# Altium schematic symbol library Driver_FET.SchLib: 194 symbols (part 2 of 2)
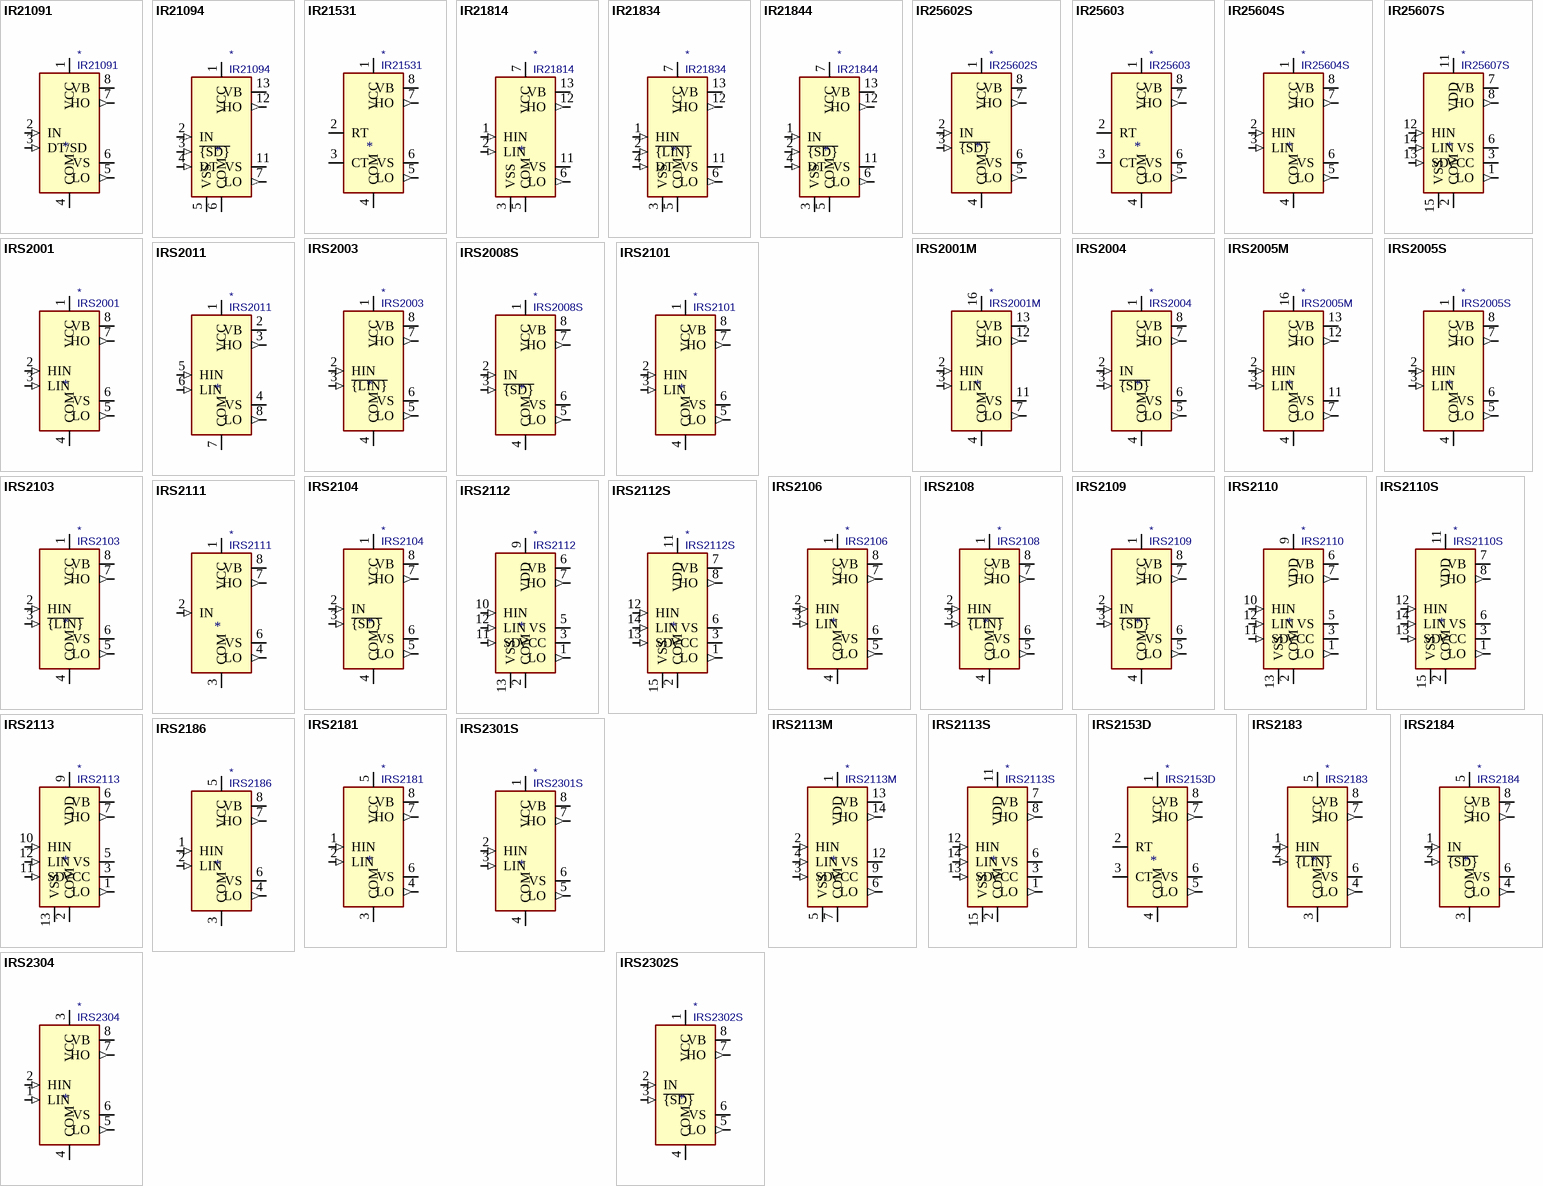
[diagram p5: symbols IR21091 to IRS2304]

## IRS2103
designator *  value IRS2103
ki_keywords: Gate Driver; ki_description: Half-Bridge Driver, 600V, 290/600mA, PDIP-8/SOIC-8; ki_fp_filters: SOIC*3.9x4.9mm*P1.27mm* DIP*W7.62mm*; Supplier: https://www.infineon.com/dgdl/irs2103.pdf?fileId=5546d462533600a4015356762b71279f
pins: 1 VCC (power), 2 HIN (in), 3 ~{{LIN}} (in), 4 COM (power), 5 LO (out), 6 VS, 7 HO (out), 8 VB

## IRS2104
designator *  value IRS2104
ki_keywords: Gate Driver; ki_description: Half-Bridge Driver, 600V, 290/600mA, PDIP-8/SOIC-8; ki_fp_filters: SOIC*3.9x4.9mm*P1.27mm* DIP*W7.62mm*; Supplier: https://www.infineon.com/dgdl/irs2104.pdf?fileId=5546d462533600a40153567633f727a1
pins: 1 VCC (power), 2 IN (in), 3 ~{{SD}} (in), 4 COM (power), 5 LO (out), 6 VS, 7 HO (out), 8 VB

## IRS2106
designator *  value IRS2106
ki_keywords: Gate Driver; ki_description: High and Low Side Driver, 600V, 290/600mA, PDIP-8/SOIC-8; ki_fp_filters: SOIC*3.9x4.9mm*P1.27mm* DIP*W7.62mm*; Supplier: https://www.infineon.com/dgdl/irs2106.pdf?fileId=5546d462533600a4015356763aa527a3
pins: 1 VCC (power), 2 HIN (in), 3 LIN (in), 4 COM (power), 5 LO (out), 6 VS, 7 HO (out), 8 VB

## IRS2108
designator *  value IRS2108
ki_keywords: Gate Driver; ki_description: Half-Bridge Driver, 600V, 290/600mA, PDIP-8/SOIC-8; ki_fp_filters: SOIC*3.9x4.9mm*P1.27mm* DIP*W7.62mm*; Supplier: https://www.infineon.com/dgdl/irs2108.pdf?fileId=5546d462533600a40153567649d627a8
pins: 1 VCC (power), 2 HIN (in), 3 ~{{LIN}} (in), 4 COM (power), 5 LO (out), 6 VS, 7 HO (out), 8 VB

## IRS2109
designator *  value IRS2109
ki_keywords: Gate Driver; ki_description: Half-Bridge Driver, 600V, 290/600mA, PDIP-8/SOIC-8; ki_fp_filters: SOIC*3.9x4.9mm*P1.27mm* DIP*W7.62mm*; Supplier: https://www.infineon.com/dgdl/irs2109.pdf?fileId=5546d462533600a401535676508f27ab
pins: 1 VCC (power), 2 IN (in), 3 ~{{SD}} (in), 4 COM (power), 5 LO (out), 6 VS, 7 HO (out), 8 VB

## IRS2110
designator *  value IRS2110
ki_keywords: Gate Driver; ki_description: High and Low Side Driver, 500V, 2.0/2.0A, PDIP-14; ki_fp_filters: DIP*W7.62mm*; Footprint: Package_DIP:DIP-14_W7.62mm; Supplier: https://www.infineon.com/dgdl/irs2110.pdf?fileId=5546d462533600a40153567660ff27b0
footprint DIP-14_W7.62mm
pins: 1 LO (out), 2 COM (power), 3 VCC (power), 4 NC (in) hidden, 5 VS, 6 VB, 7 HO (out), 8 NC (in) hidden, 9 VDD (power), 10 HIN (in), 11 SD (in), 12 LIN (in), 13 VSS (power), 14 NC (in) hidden

## IRS2110S
designator *  value IRS2110S
ki_keywords: Gate Driver; ki_description: High and Low Side Driver, 500V, 2.0/2.0A, SOIC-16W; ki_fp_filters: SOIC*7.5x10.3mm*P1.27mm*; Footprint: Package_SO:SOIC-16W_7.5x10.3mm_P1.27mm; Supplier: https://www.infineon.com/dgdl/irs2110.pdf?fileId=5546d462533600a40153567660ff27b0
footprint SOIC-16W_7.5x10.3mm_P1.27mm
pins: 1 LO (out), 2 COM (power), 3 VCC (power), 4 NC (in) hidden, 5 NC (in) hidden, 6 VS, 7 VB, 8 HO (out), 9 NC (in) hidden, 10 NC (in) hidden, 11 VDD (power), 12 HIN (in), 13 SD (in), 14 LIN (in), 15 VSS (power), 16 NC (in) hidden

## IRS2111
designator *  value IRS2111
ki_keywords: Gate Driver; ki_description: Half-Bridge Driver, 600V, 290/600mA, PDIP-8/SOIC-8; ki_fp_filters: SOIC*3.9x4.9mm*P1.27mm* DIP*W7.62mm*; Supplier: https://www.infineon.com/dgdl/irs2111pbf.pdf?fileId=5546d462533600a401535676679b27b3
pins: 1 VCC (power), 2 IN (in), 3 COM (power), 4 LO (out), 5 NC (in) hidden, 6 VS, 7 HO (out), 8 VB

## IRS2112
designator *  value IRS2112
ki_keywords: Gate Driver; ki_description: High and Low Side Driver, 600V, 290/600mA, PDIP-14; ki_fp_filters: DIP*W7.62mm*; Footprint: Package_DIP:DIP-14_W7.62mm; Supplier: https://www.infineon.com/dgdl/irs2112pbf.pdf?fileId=5546d462533600a401535676702827b5
footprint DIP-14_W7.62mm
pins: 1 LO (out), 2 COM (power), 3 VCC (power), 4 NC (in) hidden, 5 VS, 6 VB, 7 HO (out), 8 NC (in) hidden, 9 VDD (power), 10 HIN (in), 11 SD (in), 12 LIN (in), 13 VSS (power), 14 NC (in) hidden

## IRS2112S
designator *  value IRS2112S
ki_keywords: Gate Driver; ki_description: High and Low Side Driver, 500V, 290/600mA, SOIC-16W; ki_fp_filters: SOIC*7.5x10.3mm*P1.27mm*; Footprint: Package_SO:SOIC-16W_7.5x10.3mm_P1.27mm; Supplier: https://www.infineon.com/dgdl/irs2112pbf.pdf?fileId=5546d462533600a401535676702827b5
footprint SOIC-16W_7.5x10.3mm_P1.27mm
pins: 1 LO (out), 2 COM (power), 3 VCC (power), 4 NC (in) hidden, 5 NC (in) hidden, 6 VS, 7 VB, 8 HO (out), 9 NC (in) hidden, 10 NC (in) hidden, 11 VDD (power), 12 HIN (in), 13 SD (in), 14 LIN (in), 15 VSS (power), 16 NC (in) hidden

## IRS2113
designator *  value IRS2113
ki_keywords: Gate Driver; ki_description: High and Low Side Driver, 600V, 2.0/2.0A, PDIP-14; ki_fp_filters: DIP*W7.62mm*; Footprint: Package_DIP:DIP-14_W7.62mm; Supplier: https://www.infineon.com/dgdl/irs2110.pdf?fileId=5546d462533600a40153567660ff27b0
footprint DIP-14_W7.62mm
pins: 1 LO (out), 2 COM (power), 3 VCC (power), 4 NC (in) hidden, 5 VS, 6 VB, 7 HO (out), 8 NC (in) hidden, 9 VDD (power), 10 HIN (in), 11 SD (in), 12 LIN (in), 13 VSS (power), 14 NC (in) hidden

## IRS2113M
designator *  value IRS2113M
ki_keywords: Gate Driver; ki_description: High- and Low-Side Driver, 600V, 2.5/2.5A, MLPQ-14; ki_fp_filters: Infineon*MLPQ*EP*4x4mm*P0.5mm*; Footprint: Package_DFN_QFN:Infineon_MLPQ-16-14-1EP_4x4mm_P0.5mm; Supplier: https://www.infineon.com/dgdl/irs2113mpbf.pdf?fileId=5546d462533600a40153567676a227b7
footprint Infineon_MLPQ-16-14-1EP_4x4mm_P0.5mm
pins: 1 VDD (power), 2 HIN (in), 3 SD (in), 4 LIN (in), 5 VSS (power), 6 LO (out), 7 COM (power), 8 NC (in) hidden, 9 VCC (power), 11 NC (in) hidden, 12 VS, 13 VB, 14 HO (out), 16 NC (in) hidden, 17 COM hidden

## IRS2113S
designator *  value IRS2113S
ki_keywords: Gate Driver; ki_description: High and Low Side Driver, 500V, 2.0/2.0A, SOIC-16W; ki_fp_filters: SOIC*7.5x10.3mm*P1.27mm*; Footprint: Package_SO:SOIC-16W_7.5x10.3mm_P1.27mm; Supplier: https://www.infineon.com/dgdl/irs2110.pdf?fileId=5546d462533600a40153567660ff27b0
footprint SOIC-16W_7.5x10.3mm_P1.27mm
pins: 1 LO (out), 2 COM (power), 3 VCC (power), 4 NC (in) hidden, 5 NC (in) hidden, 6 VS, 7 VB, 8 HO (out), 9 NC (in) hidden, 10 NC (in) hidden, 11 VDD (power), 12 HIN (in), 13 SD (in), 14 LIN (in), 15 VSS (power), 16 NC (in) hidden

## IRS2153D
designator *  value IRS2153D
ki_keywords: Oscillating Gate Driver; ki_description: Self-Oscillating Half-Bridge Driver IC, 600V, 180/260mA, PDIP-8/SOIC-8; ki_fp_filters: SOIC*3.9x4.9mm*P1.27mm* DIP*W7.62mm*; Supplier: https://www.infineon.com/dgdl/irs2153d.pdf?fileId=5546d462533600a401535676951e27c3
pins: 1 VCC (power), 2 RT, 3 CT, 4 COM (power), 5 LO (out), 6 VS, 7 HO (out), 8 VB

## IRS2181
designator *  value IRS2181
ki_keywords: Gate Driver; ki_description: High and Low Side Driver, 600V, 1.4/1.8A, PDIP-8/SOIC-8; ki_fp_filters: SOIC*3.9x4.9mm*P1.27mm* DIP*W7.62mm*; Supplier: https://www.infineon.com/dgdl/irs2181.pdf?fileId=5546d462533600a401535676c12b27d3
pins: 1 HIN (in), 2 LIN (in), 3 COM (power), 4 LO (out), 5 VCC (power), 6 VS, 7 HO (out), 8 VB

## IRS2183
designator *  value IRS2183
ki_keywords: Gate Driver; ki_description: Half-Bridge Driver, 600V, 1.4/1.8A, PDIP-8/SOIC-8; ki_fp_filters: SOIC*3.9x4.9mm*P1.27mm* DIP*W7.62mm*; Supplier: https://www.infineon.com/dgdl/irs2183.pdf?fileId=5546d462533600a401535676d20c27d8
pins: 1 HIN (in), 2 ~{{LIN}} (in), 3 COM (power), 4 LO (out), 5 VCC (power), 6 VS, 7 HO (out), 8 VB

## IRS2184
designator *  value IRS2184
ki_keywords: Gate Driver; ki_description: Half-Bridge Driver, 600V, 1.4/1.8A, PDIP-8/SOIC-8; ki_fp_filters: SOIC*3.9x4.9mm*P1.27mm* DIP*W7.62mm*; Supplier: https://www.infineon.com/dgdl/irs2184.pdf?fileId=5546d462533600a401535676d8da27db
pins: 1 IN (in), 2 ~{{SD}} (in), 3 COM (power), 4 LO (out), 5 VCC (power), 6 VS, 7 HO (out), 8 VB

## IRS2186
designator *  value IRS2186
ki_keywords: gate driver; ki_description: High and Low Side Driver, 600V, 4A, PDIP-8/SOIC-8; ki_fp_filters: SOIC*3.9x4.9mm*P1.27mm* DIP*W7.62mm*; Supplier: https://www.infineon.com/dgdl/irs2186pbf.pdf?fileId=5546d462533600a40153567716c427ed
pins: 1 HIN (in), 2 LIN (in), 3 COM (power), 4 LO (out), 5 VCC (power), 6 VS, 7 HO (out), 8 VB

## IRS2301S
designator *  value IRS2301S
ki_keywords: Gate Driver; ki_description: High and Low Side Driver, 600V, 200/350mA, SOIC-8; ki_fp_filters: SOIC*3.9x4.9mm*P1.27mm*; Footprint: Package_SO:SOIC-8_3.9x4.9mm_P1.27mm; Supplier: https://www.infineon.com/dgdl/irs2301pbf.pdf?fileId=5546d462533600a40153567a7ec527fe
footprint SOIC-8_3.9x4.9mm_P1.27mm
pins: 1 VCC (power), 2 HIN (in), 3 LIN (in), 4 COM (power), 5 LO (out), 6 VS, 7 HO (out), 8 VB

## IRS2302S
designator *  value IRS2302S
ki_keywords: Gate Driver; ki_description: Half-Bridge Driver, 600V, 200/350mA, SOIC-8; ki_fp_filters: SOIC*3.9x4.9mm*P1.27mm*; Footprint: Package_SO:SOIC-8_3.9x4.9mm_P1.27mm; Supplier: https://www.infineon.com/dgdl/Infineon-IRS2302-DS-v02_01-EN.pdf?fileId=5546d462533600a40153567a87382800
footprint SOIC-8_3.9x4.9mm_P1.27mm
pins: 1 VCC (power), 2 IN (in), 3 ~{{SD}} (in), 4 COM (power), 5 LO (out), 6 VS, 7 HO (out), 8 VB

## IRS2304
designator *  value IRS2304
ki_keywords: Gate Driver; ki_description: Half-Bridge Driver, 600V, 290/600mA, PDIP-8/SOIC-8; ki_fp_filters: SOIC*3.9x4.9mm*P1.27mm* DIP*W7.62mm*; Supplier: https://www.infineon.com/dgdl/irs2304spbf.pdf?fileId=5546d462533600a40153567a8fe72802
pins: 1 LIN (in), 2 HIN (in), 3 VCC (power), 4 COM (power), 5 LO (out), 6 VS, 7 HO (out), 8 VB

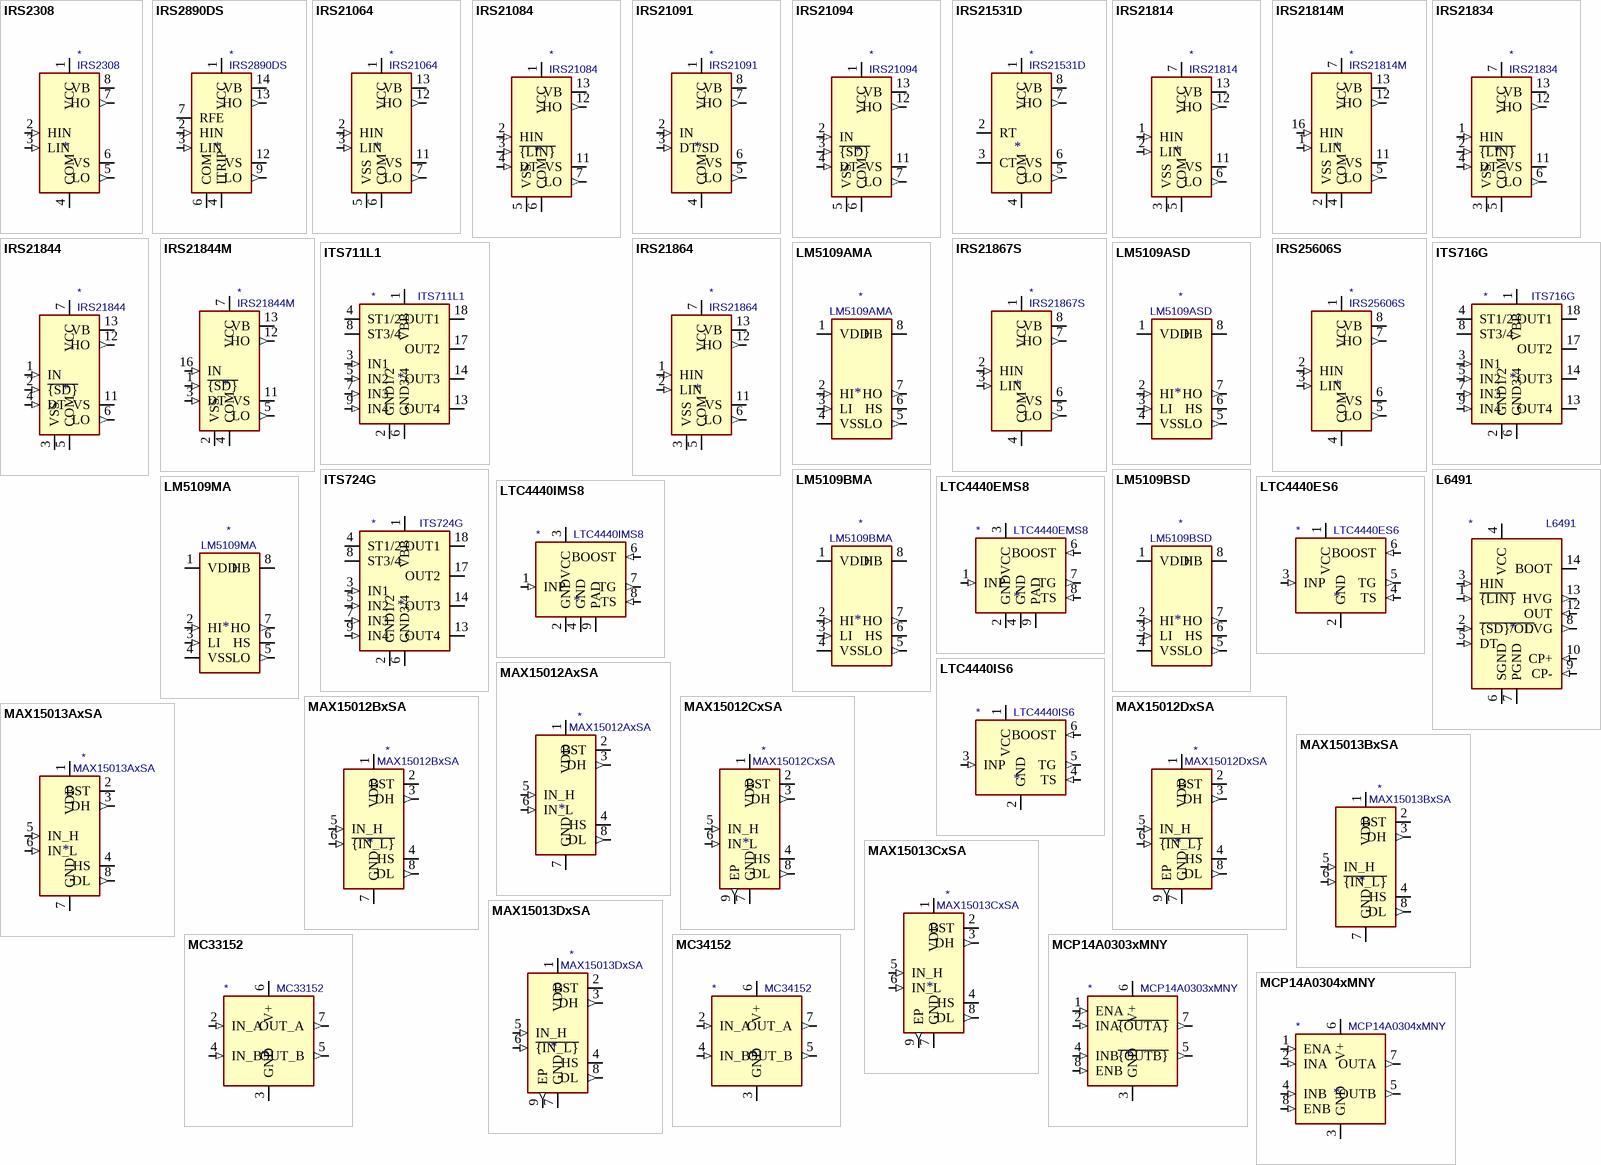
[diagram p3: symbols IRS2308 to MCP14A0304xMNY]

## IRS2308
designator *  value IRS2308
ki_keywords: Gate Driver; ki_description: Half-Bridge Driver, 600V, 290/600mA, PDIP-8/SOIC-8; ki_fp_filters: SOIC*3.9x4.9mm*P1.27mm* DIP*W7.62mm*; Supplier: https://www.infineon.com/dgdl/irs2308.pdf?fileId=5546d462533600a40153567a98ac2804
pins: 1 VCC (power), 2 HIN (in), 3 LIN (in), 4 COM (power), 5 LO (out), 6 VS, 7 HO (out), 8 VB

## IRS2890DS
designator *  value IRS2890DS
ki_keywords: Gate Driver; ki_description: Half-Bridge Driver with Overcurrent Protection, 600V, 220/480mA, SOIC-14; ki_fp_filters: SOIC*3.9x8.7mm*P1.27mm*; Footprint: Package_SO:SOIC-14_3.9x8.7mm_P1.27mm; Supplier: https://www.infineon.com/dgdl/Infineon-IRS2890DS-DS-v01_00-EN.pdf?fileId=5546d4625a888733015aad6fbc8a4bf4
footprint SOIC-14_3.9x8.7mm_P1.27mm
pins: 1 VCC (power), 2 HIN (in), 3 LIN (in), 4 ITRIP, 5 NC (in) hidden, 6 COM (power), 7 RFE (oc), 8 NC (in) hidden, 9 LO (out), 10 NC (in) hidden, 11 NC (in) hidden, 12 VS, 13 HO (out), 14 VB

## IRS21064
designator *  value IRS21064
ki_keywords: Gate Driver; ki_description: High and Low Side Driver, 600V, 290/600mA, PDIP-14/SOIC-14; ki_fp_filters: SOIC*3.9x8.7mm*P1.27mm* DIP*W7.62mm*; Supplier: https://www.infineon.com/dgdl/irs2106.pdf?fileId=5546d462533600a4015356763aa527a3
pins: 1 VCC (power), 2 HIN (in), 3 LIN (in), 4 NC (in) hidden, 5 VSS (power), 6 COM (power), 7 LO (out), 8 NC (in) hidden, 9 NC (in) hidden, 10 NC (in) hidden, 11 VS, 12 HO (out), 13 VB, 14 NC (in) hidden

## IRS21084
designator *  value IRS21084
ki_keywords: Gate Driver; ki_description: Half-Bridge Driver, 600V, 290/600mA, PDIP-14/SOIC-14; ki_fp_filters: SOIC*3.9x8.7mm*P1.27mm* DIP*W7.62mm*; Supplier: https://www.infineon.com/dgdl/irs2108.pdf?fileId=5546d462533600a40153567649d627a8
pins: 1 VCC (power), 2 HIN (in), 3 ~{{LIN}} (in), 4 DT (in), 5 VSS (power), 6 COM (power), 7 LO (out), 8 NC (in) hidden, 9 NC (in) hidden, 10 NC (in) hidden, 11 VS, 12 HO (out), 13 VB, 14 NC (in) hidden

## IRS21091
designator *  value IRS21091
ki_keywords: Gate Driver; ki_description: Half-Bridge Driver, 600V, 290/600mA, PDIP-8/SOIC-8; ki_fp_filters: SOIC*3.9x4.9mm*P1.27mm* DIP*W7.62mm*; Supplier: https://www.infineon.com/dgdl/irs21091.pdf?fileId=5546d462533600a401535676573d27ae
pins: 1 VCC (power), 2 IN (in), 3 DT/SD (in), 4 COM (power), 5 LO (out), 6 VS, 7 HO (out), 8 VB

## IRS21094
designator *  value IRS21094
ki_keywords: Gate Driver; ki_description: Half-Bridge Driver, 600V, 290/600mA, PDIP-8/SOIC-8; ki_fp_filters: SOIC*3.9x8.7mm*P1.27mm* DIP*W7.62mm*; Supplier: https://www.infineon.com/dgdl/irs2109.pdf?fileId=5546d462533600a401535676508f27ab
pins: 1 VCC (power), 2 IN (in), 3 ~{{SD}} (in), 4 DT (in), 5 VSS (power), 6 COM (power), 7 LO (out), 8 NC (in) hidden, 9 NC (in) hidden, 10 NC (in) hidden, 11 VS, 12 HO (out), 13 VB, 14 NC (in) hidden

## IRS21531D
designator *  value IRS21531D
ki_keywords: Oscillating Gate Driver; ki_description: Self-Oscillating Half-Bridge Driver IC, 600V, 180/260mA, PDIP-8/SOIC-8; ki_fp_filters: SOIC*3.9x4.9mm*P1.27mm* DIP*W7.62mm*; Supplier: https://www.infineon.com/dgdl/irs2153d.pdf?fileId=5546d462533600a401535676951e27c3
pins: 1 VCC (power), 2 RT, 3 CT, 4 COM (power), 5 LO (out), 6 VS, 7 HO (out), 8 VB

## IRS21814
designator *  value IRS21814
ki_keywords: Gate Driver; ki_description: High and Low Side Driver, 600V, 1.4/1.8A, PDIP-14/SOIC-14; ki_fp_filters: SOIC*3.9x8.7mm*P1.27mm* DIP*W7.62mm*; Supplier: https://www.infineon.com/dgdl/irs2181.pdf?fileId=5546d462533600a401535676c12b27d3
pins: 1 HIN (in), 2 LIN (in), 3 VSS (power), 4 NC (in) hidden, 5 COM (power), 6 LO (out), 7 VCC (power), 8 NC (in) hidden, 9 NC (in) hidden, 10 NC (in) hidden, 11 VS, 12 HO (out), 13 VB, 14 NC (in) hidden

## IRS21814M
designator *  value IRS21814M
ki_keywords: Gate Driver; ki_description: High- and Low-Side Driver, 600V, 1.9/2.3A, MLPQ-14; ki_fp_filters: Infineon*MLPQ*EP*4x4mm*P0.5mm*; Footprint: Package_DFN_QFN:Infineon_MLPQ-16-14-1EP_4x4mm_P0.5mm; Supplier: https://www.infineon.com/dgdl/irs21814mpbf.pdf?fileId=5546d462533600a401535676c8a827d6
footprint Infineon_MLPQ-16-14-1EP_4x4mm_P0.5mm
pins: 1 LIN (in), 2 VSS (power), 3 NC (in) hidden, 4 COM (power), 5 LO (out), 6 NC (in) hidden, 7 VCC (power), 8 NC (in) hidden, 9 NC (in) hidden, 11 VS, 12 HO (out), 13 VB, 14 NC (in) hidden, 16 HIN (in), 17 COM hidden

## IRS21834
designator *  value IRS21834
ki_keywords: Gate Driver; ki_description: Half-Bridge Driver, 600V, 1.4/1.8A, PDIP-14/SOIC-14; ki_fp_filters: SOIC*3.9x8.7mm*P1.27mm* DIP*W7.62mm*; Supplier: https://www.infineon.com/dgdl/irs2183.pdf?fileId=5546d462533600a401535676d20c27d8
pins: 1 HIN (in), 2 ~{{LIN}} (in), 3 VSS (power), 4 DT (in), 5 COM (power), 6 LO (out), 7 VCC (power), 8 NC (in) hidden, 9 NC (in) hidden, 10 NC (in) hidden, 11 VS, 12 HO (out), 13 VB, 14 NC (in) hidden

## IRS21844
designator *  value IRS21844
ki_keywords: Gate Driver; ki_description: Half-Bridge Driver, 600V, 1.4/1.8A, PDIP-14/SOIC-14; ki_fp_filters: SOIC*3.9x8.7mm*P1.27mm* DIP*W7.62mm*; Supplier: https://www.infineon.com/dgdl/irs2184.pdf?fileId=5546d462533600a401535676d8da27db
pins: 1 IN (in), 2 ~{{SD}} (in), 3 VSS (power), 4 DT (in), 5 COM (power), 6 LO (out), 7 VCC (power), 8 NC (in) hidden, 9 NC (in) hidden, 10 NC (in) hidden, 11 VS, 12 HO (out), 13 VB, 14 NC (in) hidden

## IRS21844M
designator *  value IRS21844M
ki_keywords: Gate Driver; ki_description: Half-Bridge Driver, 600V, 1.9/2.3A, MLPQ-14; ki_fp_filters: Infineon*MLPQ*EP*4x4mm*P0.5mm*; Footprint: Package_DFN_QFN:Infineon_MLPQ-16-14-1EP_4x4mm_P0.5mm; Supplier: https://www.infineon.com/dgdl/irs21844mpbf.pdf?fileId=5546d462533600a401535676dfb027de
footprint Infineon_MLPQ-16-14-1EP_4x4mm_P0.5mm
pins: 1 ~{{SD}} (in), 2 VSS (power), 3 DT (in), 4 COM (power), 5 LO (out), 6 NC (in) hidden, 7 VCC (power), 8 NC (in) hidden, 9 NC (in) hidden, 11 VS, 12 HO (out), 13 VB, 14 NC (in) hidden, 16 IN (in), 17 COM hidden

## IRS21864
designator *  value IRS21864
ki_keywords: gate driver; ki_description: High and Low Side Driver, 600V, 4A, PDIP-14/SOIC-14; ki_fp_filters: SOIC*3.9x8.7mm*P1.27mm* DIP*W7.62mm*; Supplier: https://www.infineon.com/dgdl/irs2186pbf.pdf?fileId=5546d462533600a40153567716c427ed
pins: 1 HIN (in), 2 LIN (in), 3 VSS (power), 4 NC (in) hidden, 5 COM (power), 6 LO (out), 7 VCC (power), 8 NC (in) hidden, 9 NC (in) hidden, 10 NC (in) hidden, 11 VS, 12 HO (out), 13 VB, 14 NC (in) hidden

## IRS21867S
designator *  value IRS21867S
ki_keywords: Gate Driver; ki_description: High and Low Side Driver, 600V, 4.0/4.0A, SOIC-8; ki_fp_filters: SOIC*3.9x4.9mm*P1.27mm*; Footprint: Package_SO:SOIC-8_3.9x4.9mm_P1.27mm; Supplier: http://www.infineon.com/dgdl/irs21867spbf.pdf?fileId=5546d462533600a4015356770e8327eb
footprint SOIC-8_3.9x4.9mm_P1.27mm
pins: 1 VCC (power), 2 HIN (in), 3 LIN (in), 4 COM (power), 5 LO (out), 6 VS, 7 HO (out), 8 VB

## IRS25606S
designator *  value IRS25606S
ki_keywords: Gate Driver; ki_description: Half-Bridge Driver, 600V, 200/350mA, SOIC-8; ki_fp_filters: SOIC*3.9x4.9mm*P1.27mm*; Footprint: Package_SO:SOIC-8_3.9x4.9mm_P1.27mm; Supplier: https://www.infineon.com/dgdl/ir25606.pdf?fileId=5546d462533600a4015355ca002316f3
footprint SOIC-8_3.9x4.9mm_P1.27mm
pins: 1 VCC (power), 2 HIN (in), 3 LIN (in), 4 COM (power), 5 LO (out), 6 VS, 7 HO (out), 8 VB

## ITS711L1
designator *  value ITS711L1
ki_keywords: driver fet quad; ki_description: Smart High-Side Power Switch for Industrial Applications, Four Channels, Rds 200mΩ, SOIC-20W; ki_fp_filters: SOIC*7.5x12.8mm*P1.27mm*; Footprint: Package_SO:SOIC-20W_7.5x12.8mm_P1.27mm; Supplier: https://www.infineon.com/dgdl/Infineon-ITS711L1-DS-v01_03-en.pdf?fileId=db3a30432239cccd0122e560bae03c62
footprint SOIC-20W_7.5x12.8mm_P1.27mm
pins: 1 VBB (power), 2 GND1/2 (power), 3 IN1 (in), 4 ST1/2 (oc), 5 IN2 (in), 6 GND3/4 (power), 7 IN3 (in), 8 ST3/4 (oc), 9 IN4 (in), 10 VBB hidden, 11 VBB hidden, 12 VBB hidden, 13 OUT4 (oe), 14 OUT3 (oe), 15 VBB hidden, 16 VBB hidden, 17 OUT2 (oe), 18 OUT1 (oe), 19 VBB hidden, 20 VBB hidden

## ITS716G
designator *  value ITS716G
ki_keywords: driver fet quad; ki_description: Smart High-Side Power Switch for Industrial Applications, Four Channels, Rds 140mΩ, SOIC-20W; ki_fp_filters: SOIC*7.5x12.8mm*P1.27mm*; Footprint: Package_SO:SOIC-20W_7.5x12.8mm_P1.27mm; Supplier: https://www.infineon.com/dgdl/Infineon-ITS716G-DS-v01_01-en.pdf?fileId=db3a304412b407950112b428c2cf3e6d
footprint SOIC-20W_7.5x12.8mm_P1.27mm
pins: 1 VBB (power), 2 GND1/2 (power), 3 IN1 (in), 4 ST1/2 (oc), 5 IN2 (in), 6 GND3/4 (power), 7 IN3 (in), 8 ST3/4 (oc), 9 IN4 (in), 10 VBB hidden, 11 VBB hidden, 12 VBB hidden, 13 OUT4 (oe), 14 OUT3 (oe), 15 VBB hidden, 16 VBB hidden, 17 OUT2 (oe), 18 OUT1 (oe), 19 VBB hidden, 20 VBB hidden

## ITS724G
designator *  value ITS724G
ki_keywords: driver fet quad; ki_description: Smart High-Side Power Switch for Industrial Applications, Four Channels, Rds 90mΩ, SOIC-20W; ki_fp_filters: SOIC*7.5x12.8mm*P1.27mm*; Footprint: Package_SO:SOIC-20W_7.5x12.8mm_P1.27mm; Supplier: https://www.infineon.com/dgdl/Infineon-ITS724G-DS-v01_01-en.pdf?fileId=db3a304412b407950112b428d6083e90
footprint SOIC-20W_7.5x12.8mm_P1.27mm
pins: 1 VBB (power), 2 GND1/2 (power), 3 IN1 (in), 4 ST1/2 (oc), 5 IN2 (in), 6 GND3/4 (power), 7 IN3 (in), 8 ST3/4 (oc), 9 IN4 (in), 10 VBB hidden, 11 VBB hidden, 12 VBB hidden, 13 OUT4 (oe), 14 OUT3 (oe), 15 VBB hidden, 16 VBB hidden, 17 OUT2 (oe), 18 OUT1 (oe), 19 VBB hidden, 20 VBB hidden

## L6491
designator *  value L6491
ki_keywords: fet driver; ki_description: High voltage high and low-side 4 A gate driver, SO-14; ki_fp_filters: SO*3.9x8.65mm*P1.27mm*; Footprint: Package_SO:SO-14_3.9x8.65mm_P1.27mm; Supplier: https://www.st.com/resource/en/datasheet/l6491.pdf
footprint SO-14_3.9x8.65mm_P1.27mm
pins: 1 ~{{LIN}} (in), 2 ~{{SD}/OD} (in), 3 HIN (in), 4 VCC (power), 5 DT (in), 6 SGND (power), 7 PGND (power), 8 LVG (out), 9 CP- (in), 10 CP+ (in), 11 NC (in) hidden, 12 OUT (in), 13 HVG (out), 14 BOOT

## LM5109AMA
designator *  value LM5109AMA
ki_keywords: Half-Bridge Gate Driver; ki_description: Half-Bridge Gate Driver, Output Current 1.0A, 100V, SOIC-8; ki_fp_filters: SOIC*3.9x4.9mm*P1.27mm*; Footprint: Package_SO:SOIC-8_3.9x4.9mm_P1.27mm; Supplier: http://www.ti.com/lit/ds/symlink/lm5109a.pdf
footprint SOIC-8_3.9x4.9mm_P1.27mm
pins: 1 VDD (power), 2 HI (in), 3 LI (in), 4 VSS (power), 5 LO (out), 6 HS, 7 HO (out), 8 HB

## LM5109ASD
designator *  value LM5109ASD
ki_keywords: Half-Bridge Gate Driver; ki_description: Half-Bridge Gate Driver, Output Current 1.0A, 100V, WSON-8; ki_fp_filters: WSON*1EP*4x4mm*P0.8mm*; Footprint: Package_SON:WSON-8-1EP_4x4mm_P0.8mm_EP2.6x3mm; Supplier: http://www.ti.com/lit/ds/symlink/lm5109a.pdf
footprint WSON-8-1EP_4x4mm_P0.8mm_EP2.6x3mm
pins: 1 VDD (power), 2 HI (in), 3 LI (in), 4 VSS (power), 5 LO (out), 6 HS, 7 HO (out), 8 HB, 9 VSS hidden

## LM5109BMA
designator *  value LM5109BMA
ki_keywords: Half-Bridge Gate Driver; ki_description: Half-Bridge Gate Driver, Output Current 1.0A, 100V, SOIC-8; ki_fp_filters: SOIC*3.9x4.9mm*P1.27mm*; Footprint: Package_SO:SOIC-8_3.9x4.9mm_P1.27mm; Supplier: http://www.ti.com/lit/ds/symlink/lm5109b.pdf
footprint SOIC-8_3.9x4.9mm_P1.27mm
pins: 1 VDD (power), 2 HI (in), 3 LI (in), 4 VSS (power), 5 LO (out), 6 HS, 7 HO (out), 8 HB

## LM5109BSD
designator *  value LM5109BSD
ki_keywords: Half-Bridge Gate Driver; ki_description: Half-Bridge Gate Driver, Output Current 1.0A, 100V, WSON-8; ki_fp_filters: WSON*1EP*4x4mm*P0.8mm*; Footprint: Package_SON:WSON-8-1EP_4x4mm_P0.8mm_EP2.6x3mm; Supplier: http://www.ti.com/lit/ds/symlink/lm5109b.pdf
footprint WSON-8-1EP_4x4mm_P0.8mm_EP2.6x3mm
pins: 1 VDD (power), 2 HI (in), 3 LI (in), 4 VSS (power), 5 LO (out), 6 HS, 7 HO (out), 8 HB, 9 VSS hidden

## LM5109MA
designator *  value LM5109MA
ki_keywords: Half-Bridge Gate Driver; ki_description: Half-Bridge Gate Driver, Output Current 1.0A, 100V, SOIC-8; ki_fp_filters: SOIC*3.9x4.9mm*P1.27mm*; Footprint: Package_SO:SOIC-8_3.9x4.9mm_P1.27mm; Supplier: http://www.ti.com/lit/ds/symlink/lm5109.pdf
footprint SOIC-8_3.9x4.9mm_P1.27mm
pins: 1 VDD (power), 2 HI (in), 3 LI (in), 4 VSS (power), 5 LO (out), 6 HS, 7 HO (out), 8 HB

## LTC4440EMS8
designator *  value LTC4440EMS8
ki_keywords: high-side mosfet-driver; ki_description: High-side, N-Channel, Mosfet driver, 80V input, -40°C to +85°C, MSOP-8; ki_fp_filters: MSOP*1EP*3x3mm*P0.65mm*; Footprint: Package_SO:MSOP-8-1EP_3x3mm_P0.65mm_EP1.68x1.88mm; Supplier: https://www.analog.com/media/en/technical-documentation/data-sheets/4440fb.pdf
footprint MSOP-8-1EP_3x3mm_P0.65mm_EP1.68x1.88mm
pins: 1 INP (in), 2 GND (power), 3 VCC (power), 4 GND (power), 5 NC (in) hidden, 6 BOOST (in), 7 TG (out), 8 TS (in), 9 PAD (power)

## LTC4440ES6
designator *  value LTC4440ES6
ki_keywords: high-side mosfet-driver; ki_description: High-side, N-Channel, Mosfet driver, 80V input, -40°C to +85°C, SOT23-6; ki_fp_filters: SOT?23*; Footprint: Package_TO_SOT_SMD:SOT-23-6; Supplier: https://www.analog.com/media/en/technical-documentation/data-sheets/4440fb.pdf
footprint SOT-23-6
pins: 1 VCC (power), 2 GND (power), 3 INP (in), 4 TS (in), 5 TG (out), 6 BOOST (in)

## LTC4440IMS8
designator *  value LTC4440IMS8
ki_keywords: high-side mosfet-driver; ki_description: High-side, N-Channel, Mosfet driver, 80V input, -40°C to +125°C, MSOP-8; ki_fp_filters: MSOP*1EP*3x3mm*P0.65mm*; Footprint: Package_SO:MSOP-8-1EP_3x3mm_P0.65mm_EP1.68x1.88mm; Supplier: https://www.analog.com/media/en/technical-documentation/data-sheets/4440fb.pdf
footprint MSOP-8-1EP_3x3mm_P0.65mm_EP1.68x1.88mm
pins: 1 INP (in), 2 GND (power), 3 VCC (power), 4 GND (power), 5 NC (in) hidden, 6 BOOST (in), 7 TG (out), 8 TS (in), 9 PAD (power)

## LTC4440IS6
designator *  value LTC4440IS6
ki_keywords: high-side mosfet-driver; ki_description: High-side, N-Channel, Mosfet driver, 80V input, -40°C to +85°C, SOT23-6; ki_fp_filters: SOT?23*; Footprint: Package_TO_SOT_SMD:SOT-23-6; Supplier: https://www.analog.com/media/en/technical-documentation/data-sheets/4440fb.pdf
footprint SOT-23-6
pins: 1 VCC (power), 2 GND (power), 3 INP (in), 4 TS (in), 5 TG (out), 6 BOOST (in)

## MAX15012AxSA
designator *  value MAX15012AxSA
ki_keywords: Half Bridge Gate Driver; ki_description: High Frequency Half Bridge Driver, Output Current 2.0A, 175V, CMOS Input, SOIC-8; ki_fp_filters: SOIC*3.9x4.9mm*P1.27mm*; Footprint: Package_SO:SOIC-8_3.9x4.9mm_P1.27mm; Supplier: https://datasheets.maximintegrated.com/en/ds/MAX15012-MAX15013B.pdf
footprint SOIC-8_3.9x4.9mm_P1.27mm
pins: 1 VDD (power), 2 BST (power), 3 DH (out), 4 HS, 5 IN_H (in), 6 IN_L (in), 7 GND (power), 8 DL (out)

## MAX15012BxSA
designator *  value MAX15012BxSA
ki_keywords: Half Bridge Gate Driver; ki_description: High Frequency Half Bridge Driver, Output Current 2.0A, 175V, CMOS Input, SOIC-8; ki_fp_filters: SOIC*3.9x4.9mm*P1.27mm*; Footprint: Package_SO:SOIC-8_3.9x4.9mm_P1.27mm; Supplier: https://datasheets.maximintegrated.com/en/ds/MAX15012-MAX15013B.pdf
footprint SOIC-8_3.9x4.9mm_P1.27mm
pins: 1 VDD (power), 2 BST (power), 3 DH (out), 4 HS, 5 IN_H (in), 6 ~{{IN_L}} (in), 7 GND (power), 8 DL (out)

## MAX15012CxSA
designator *  value MAX15012CxSA
ki_keywords: Half Bridge Gate Driver; ki_description: High Frequency Half Bridge Driver, Output Current 2.0A, 175V, CMOS Input, SOIC-8; ki_fp_filters: SOIC*1EP*3.9x4.9mm*P1.27mm*; Footprint: Package_SO:SOIC-8-1EP_3.9x4.9mm_P1.27mm_EP2.514x3.2mm; Supplier: https://datasheets.maximintegrated.com/en/ds/MAX15012-MAX15013B.pdf
footprint SOIC-8-1EP_3.9x4.9mm_P1.27mm_EP2.514x3.2mm
pins: 1 VDD (power), 2 BST (power), 3 DH (out), 4 HS, 5 IN_H (in), 6 IN_L (in), 7 GND (power), 8 DL (out), 9 EP (out)

## MAX15012DxSA
designator *  value MAX15012DxSA
ki_keywords: Half Bridge Gate Driver; ki_description: High Frequency Half Bridge Driver, Output Current 2.0A, 175V, CMOS Input, SOIC-8; ki_fp_filters: SOIC*1EP*3.9x4.9mm*P1.27mm*; Footprint: Package_SO:SOIC-8-1EP_3.9x4.9mm_P1.27mm_EP2.514x3.2mm; Supplier: https://datasheets.maximintegrated.com/en/ds/MAX15012-MAX15013B.pdf
footprint SOIC-8-1EP_3.9x4.9mm_P1.27mm_EP2.514x3.2mm
pins: 1 VDD (power), 2 BST (power), 3 DH (out), 4 HS, 5 IN_H (in), 6 ~{{IN_L}} (in), 7 GND (power), 8 DL (out), 9 EP (out)

## MAX15013AxSA
designator *  value MAX15013AxSA
ki_keywords: Half Bridge Gate Driver; ki_description: High Frequency Half Bridge Driver, Output Current 2.0A, 175V, TTL Input, SOIC-8; ki_fp_filters: SOIC*3.9x4.9mm*P1.27mm*; Footprint: Package_SO:SOIC-8_3.9x4.9mm_P1.27mm; Supplier: https://datasheets.maximintegrated.com/en/ds/MAX15012-MAX15013B.pdf
footprint SOIC-8_3.9x4.9mm_P1.27mm
pins: 1 VDD (power), 2 BST (power), 3 DH (out), 4 HS, 5 IN_H (in), 6 IN_L (in), 7 GND (power), 8 DL (out)

## MAX15013BxSA
designator *  value MAX15013BxSA
ki_keywords: Half Bridge Gate Driver; ki_description: High Frequency Half Bridge Driver, Output Current 2.0A, 175V, TTL Input, SOIC-8; ki_fp_filters: SOIC*3.9x4.9mm*P1.27mm*; Footprint: Package_SO:SOIC-8_3.9x4.9mm_P1.27mm; Supplier: https://datasheets.maximintegrated.com/en/ds/MAX15012-MAX15013B.pdf
footprint SOIC-8_3.9x4.9mm_P1.27mm
pins: 1 VDD (power), 2 BST (power), 3 DH (out), 4 HS, 5 IN_H (in), 6 ~{{IN_L}} (in), 7 GND (power), 8 DL (out)

## MAX15013CxSA
designator *  value MAX15013CxSA
ki_keywords: Half Bridge Gate Driver; ki_description: High Frequency Half Bridge Driver, Output Current 2.0A, 175V, TTL Input, SOIC-8; ki_fp_filters: SOIC*1EP*3.9x4.9mm*P1.27mm*; Footprint: Package_SO:SOIC-8-1EP_3.9x4.9mm_P1.27mm_EP2.514x3.2mm; Supplier: https://datasheets.maximintegrated.com/en/ds/MAX15012-MAX15013B.pdf
footprint SOIC-8-1EP_3.9x4.9mm_P1.27mm_EP2.514x3.2mm
pins: 1 VDD (power), 2 BST (power), 3 DH (out), 4 HS, 5 IN_H (in), 6 IN_L (in), 7 GND (power), 8 DL (out), 9 EP (out)

## MAX15013DxSA
designator *  value MAX15013DxSA
ki_keywords: Half Bridge Gate Driver; ki_description: High Frequency Half Bridge Driver, Output Current 2.0A, 175V, TTL Input, SOIC-8; ki_fp_filters: SOIC*1EP*3.9x4.9mm*P1.27mm*; Footprint: Package_SO:SOIC-8-1EP_3.9x4.9mm_P1.27mm_EP2.514x3.2mm; Supplier: https://datasheets.maximintegrated.com/en/ds/MAX15012-MAX15013B.pdf
footprint SOIC-8-1EP_3.9x4.9mm_P1.27mm_EP2.514x3.2mm
pins: 1 VDD (power), 2 BST (power), 3 DH (out), 4 HS, 5 IN_H (in), 6 ~{{IN_L}} (in), 7 GND (power), 8 DL (out), 9 EP (out)

## MC33152
designator *  value MC33152
ki_keywords: Driver, Dual MOSFET; ki_description: High Speed Dual MOSFET Drivers, 1.5A, -40 to 125C, DIP-8/SOIC-8; ki_fp_filters: DIP*W7.62mm* SOIC*3.9x4.9mm*P1.27mm*; Supplier: https://www.onsemi.com/pub/Collateral/MC34152-D.PDF
pins: 1 NC (in) hidden, 2 IN_A (in), 3 GND (power), 4 IN_B (in), 5 OUT_B (out), 6 V+ (power), 7 OUT_A (out), 8 NC (in) hidden

## MC34152
designator *  value MC34152
ki_keywords: Driver, Dual MOSFET; ki_description: High Speed Dual MOSFET Drivers, 1.5A, 0 to 70C, DIP-8/SOIC-8; ki_fp_filters: DIP*W7.62mm* SOIC*3.9x4.9mm*P1.27mm*; Supplier: https://www.onsemi.com/pub/Collateral/MC34152-D.PDF
pins: 1 NC (in) hidden, 2 IN_A (in), 3 GND (power), 4 IN_B (in), 5 OUT_B (out), 6 V+ (power), 7 OUT_A (out), 8 NC (in) hidden

## MCP14A0303xMNY
designator *  value MCP14A0303xMNY
ki_keywords: Driver, Dual MOSFET; ki_description: Dual 3A-Peak MOSFET Driver, inverting outputs, DFN-8; ki_fp_filters: WDFN*1EP*3x2mm*P0.5mm*EP1.3x1.4mm*; Footprint: Package_DFN_QFN:WDFN-8-1EP_3x2mm_P0.5mm_EP1.3x1.4mm; Supplier: http://ww1.microchip.com/downloads/en/DeviceDoc/MCP14A0303_4_5-Data-Sheet-20006046A.pdf
footprint WDFN-8-1EP_3x2mm_P0.5mm_EP1.3x1.4mm
pins: 1 ENA (in), 2 INA (in), 3 GND (power), 4 INB (in), 5 ~{{OUTB}} (out), 6 V+ (power), 7 ~{{OUTA}} (out), 8 ENB (in), 9 GND hidden

## MCP14A0304xMNY
designator *  value MCP14A0304xMNY
ki_keywords: Driver, Dual MOSFET; ki_description: Dual 3A-Peak MOSFET Driver, non-inverting outputs, DFN-8; ki_fp_filters: WDFN*1EP*3x2mm*P0.5mm*EP1.3x1.4mm*; Footprint: Package_DFN_QFN:WDFN-8-1EP_3x2mm_P0.5mm_EP1.3x1.4mm; Supplier: http://ww1.microchip.com/downloads/en/DeviceDoc/MCP14A0303_4_5-Data-Sheet-20006046A.pdf
footprint WDFN-8-1EP_3x2mm_P0.5mm_EP1.3x1.4mm
pins: 1 ENA (in), 2 INA (in), 3 GND (power), 4 INB (in), 5 OUTB (out), 6 V+ (power), 7 OUTA (out), 8 ENB (in), 9 GND hidden

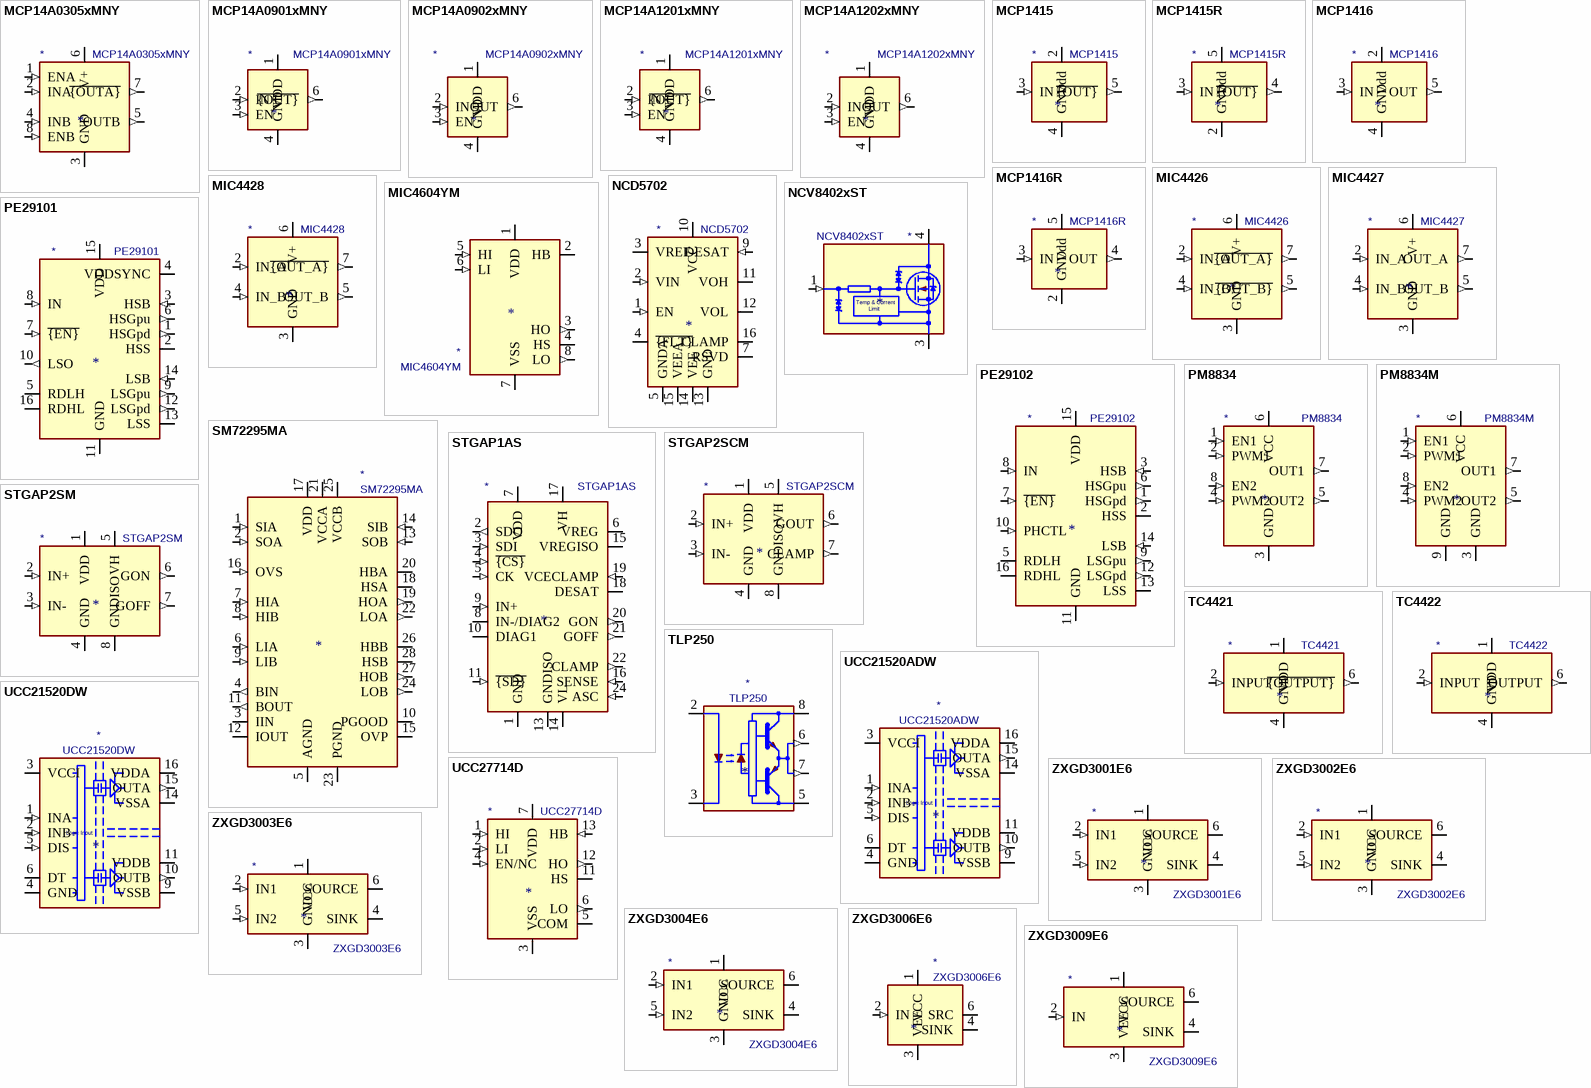
[diagram p4: symbols MCP14A0305xMNY to ZXGD3009E6]

## MCP14A0305xMNY
designator *  value MCP14A0305xMNY
ki_keywords: Driver, Dual MOSFET; ki_description: Dual 3A-Peak MOSFET Driver, inverting/non-inverting outputs, DFN-8; ki_fp_filters: WDFN*1EP*3x2mm*P0.5mm*EP1.3x1.4mm*; Footprint: Package_DFN_QFN:WDFN-8-1EP_3x2mm_P0.5mm_EP1.3x1.4mm; Supplier: http://ww1.microchip.com/downloads/en/DeviceDoc/MCP14A0303_4_5-Data-Sheet-20006046A.pdf
footprint WDFN-8-1EP_3x2mm_P0.5mm_EP1.3x1.4mm
pins: 1 ENA (in), 2 INA (in), 3 GND (power), 4 INB (in), 5 OUTB (out), 6 V+ (power), 7 ~{{OUTA}} (out), 8 ENB (in), 9 GND hidden

## MCP14A0901xMNY
designator *  value MCP14A0901xMNY
ki_keywords: Driver, Dual MOSFET; ki_description: Dual 9A-Peak MOSFET Driver, inverting outputs, DFN-8; ki_fp_filters: TDFN*1EP*3x2mm*P0.5mm*; Footprint: Package_DFN_QFN:TDFN-8-1EP_3x2mm_P0.5mm_EP1.3x1.4mm; Supplier: http://ww1.microchip.com/downloads/en/DeviceDoc/MCP14A0901_2-Data-Sheet-20006183A.pdf
footprint TDFN-8-1EP_3x2mm_P0.5mm_EP1.3x1.4mm
pins: 1 VDD (power), 2 IN (in), 3 EN (in), 4 GND (power), 5 GND hidden, 6 ~{{OUT}} (out), 7 ~{{OUT}} hidden, 8 VDD hidden, 9 GND hidden

## MCP14A0902xMNY
designator *  value MCP14A0902xMNY
ki_keywords: Driver, Dual MOSFET; ki_description: Dual 9A-Peak MOSFET Driver, non-inverting outputs, DFN-8; ki_fp_filters: TDFN*1EP*3x2mm*P0.5mm*; Footprint: Package_DFN_QFN:TDFN-8-1EP_3x2mm_P0.5mm_EP1.3x1.4mm; Supplier: http://ww1.microchip.com/downloads/en/DeviceDoc/MCP14A0901_2-Data-Sheet-20006183A.pdf
footprint TDFN-8-1EP_3x2mm_P0.5mm_EP1.3x1.4mm
pins: 1 VDD (power), 2 IN (in), 3 EN (in), 4 GND (power), 5 GND hidden, 6 OUT (out), 7 OUT hidden, 8 VDD hidden, 9 GND hidden

## MCP14A1201xMNY
designator *  value MCP14A1201xMNY
ki_keywords: Driver, Dual MOSFET; ki_description: Dual 12A-Peak MOSFET Driver, inverting outputs, DFN-8; ki_fp_filters: TDFN*1EP*3x2mm*P0.5mm*; Footprint: Package_DFN_QFN:TDFN-8-1EP_3x2mm_P0.5mm_EP1.3x1.4mm; Supplier: http://ww1.microchip.com/downloads/en/DeviceDoc/MCP14A1201-Family-Data-Sheet-DS20006228A.pdf
footprint TDFN-8-1EP_3x2mm_P0.5mm_EP1.3x1.4mm
pins: 1 VDD (power), 2 IN (in), 3 EN (in), 4 GND (power), 5 GND hidden, 6 ~{{OUT}} (out), 7 ~{{OUT}} hidden, 8 VDD hidden, 9 GND hidden

## MCP14A1202xMNY
designator *  value MCP14A1202xMNY
ki_keywords: Driver, Dual MOSFET; ki_description: Dual 12A-Peak MOSFET Driver, non-inverting outputs, DFN-8; ki_fp_filters: TDFN*1EP*3x2mm*P0.5mm*; Footprint: Package_DFN_QFN:TDFN-8-1EP_3x2mm_P0.5mm_EP1.3x1.4mm; Supplier: http://ww1.microchip.com/downloads/en/DeviceDoc/MCP14A1201-Family-Data-Sheet-DS20006228A.pdf
footprint TDFN-8-1EP_3x2mm_P0.5mm_EP1.3x1.4mm
pins: 1 VDD (power), 2 IN (in), 3 EN (in), 4 GND (power), 5 GND hidden, 6 OUT (out), 7 OUT hidden, 8 VDD hidden, 9 GND hidden

## MCP1415
designator *  value MCP1415
ki_keywords: mosfet gate driver; ki_description: 1.5A High speed power MOSFET driver with inverting output, SOT-23-5; ki_fp_filters: SOT?23*; Footprint: Package_TO_SOT_SMD:SOT-23-5; Supplier: http://ww1.microchip.com/downloads/en/DeviceDoc/20002092F.pdf
footprint SOT-23-5
pins: 1 NC (in) hidden, 2 Vdd (power), 3 IN (in), 4 GND (power), 5 ~{{OUT}} (out)

## MCP1415R
designator *  value MCP1415R
ki_keywords: mosfet gate driver; ki_description: 1.5A High speed power MOSFET driver with inverting output, SOT-23-5; ki_fp_filters: SOT?23*; Footprint: Package_TO_SOT_SMD:SOT-23-5; Supplier: http://ww1.microchip.com/downloads/en/DeviceDoc/20002092F.pdf
footprint SOT-23-5
pins: 1 NC (in) hidden, 2 GND (power), 3 IN (in), 4 ~{{OUT}} (out), 5 Vdd (power)

## MCP1416
designator *  value MCP1416
ki_keywords: mosfet gate driver; ki_description: 1.5A High speed power MOSFET driver with non-inverting output, SOT-23-5; ki_fp_filters: SOT?23*; Footprint: Package_TO_SOT_SMD:SOT-23-5; Supplier: http://ww1.microchip.com/downloads/en/DeviceDoc/20002092F.pdf
footprint SOT-23-5
pins: 1 NC (in) hidden, 2 Vdd (power), 3 IN (in), 4 GND (power), 5 OUT (out)

## MCP1416R
designator *  value MCP1416R
ki_keywords: mosfet gate driver; ki_description: 1.5A High speed power MOSFET driver with non-inverting output, SOT-23-5; ki_fp_filters: SOT?23*; Footprint: Package_TO_SOT_SMD:SOT-23-5; Supplier: http://ww1.microchip.com/downloads/en/DeviceDoc/20002092F.pdf
footprint SOT-23-5
pins: 1 NC (in) hidden, 2 GND (power), 3 IN (in), 4 OUT (out), 5 Vdd (power)

## MIC4426
designator *  value MIC4426
ki_keywords: Driver, Dual MOSFET; ki_description: Dual 1.5A-Peak Low-Side MOSFET Driver, DIP-8/SOIC-8/MSOP-8; ki_fp_filters: DIP*W7.62mm* SOIC*3.9x4.9mm*P1.27mm* MSOP*P0.65mm*; Supplier: http://www.intersil.com/content/dam/Intersil/documents/el72/el7202-12-22.pdf
pins: 1 NC (in) hidden, 2 IN_A (in), 3 GND (power), 4 IN_B (in), 5 ~{{OUT_B}} (out), 6 V+ (power), 7 ~{{OUT_A}} (out), 8 NC (in) hidden

## MIC4427
designator *  value MIC4427
ki_keywords: Driver, Dual MOSFET; ki_description: Dual 1.5A-Peak Low-Side MOSFET Driver, DIP-8/SOIC-8/MSOP-8; ki_fp_filters: DIP*W7.62mm* SOIC*3.9x4.9mm*P1.27mm* MSOP*P0.65mm*; Supplier: http://ww1.microchip.com/downloads/en/DeviceDoc/mic4426.pdf
pins: 1 NC (in) hidden, 2 IN_A (in), 3 GND (power), 4 IN_B (in), 5 OUT_B (out), 6 V+ (power), 7 OUT_A (out), 8 NC (in) hidden

## MIC4428
designator *  value MIC4428
ki_keywords: Driver, Dual MOSFET; ki_description: Dual 1.5A-Peak Low-Side MOSFET Driver, DIP-8/SOIC-8/MSOP-8; ki_fp_filters: DIP*W7.62mm* SOIC*3.9x4.9mm*P1.27mm* MSOP*P0.65mm*; Supplier: http://ww1.microchip.com/downloads/en/DeviceDoc/mic4426.pdf
pins: 1 NC (in) hidden, 2 IN_A (in), 3 GND (power), 4 IN_B (in), 5 OUT_B (out), 6 V+ (power), 7 ~{{OUT_A}} (out), 8 NC (in) hidden

## MIC4604YM
designator *  value MIC4604YM
ki_keywords: Half-Bridge Gate Driver; ki_description: 85V Half-Bridge MOSFET Driver with up to 16V Programmable Gate Drive, SOIC-8; ki_fp_filters: SOIC*3.9x4.9mm*P1.27mm*; Footprint: Package_SO:SOIC-8_3.9x4.9mm_P1.27mm; Supplier: http://ww1.microchip.com/downloads/en/DeviceDoc/20005852A.pdf
footprint SOIC-8_3.9x4.9mm_P1.27mm
pins: 1 VDD (power), 2 HB, 3 HO (out), 4 HS, 5 HI (in), 6 LI (in), 7 VSS (power), 8 LO (out)

## NCD5702
designator *  value NCD5702
ki_keywords: igbt gate driver; ki_description: High Current IGBT Gate, +4/-6A, SOIC-16; ki_fp_filters: SOIC*3.9x9.9*P1.27mm*; Footprint: Package_SO:SOIC-16_3.9x9.9mm_P1.27mm; Supplier: https://www.onsemi.com/pub/Collateral/NCD5702-D.PDF
footprint SOIC-16_3.9x9.9mm_P1.27mm
pins: 1 EN (in), 2 VIN (in), 3 VREF (power), 4 ~{{FLT}} (oc), 5 GNDA (power), 6 NC (in) hidden, 7 RSVD, 8 NC (in) hidden, 9 DESAT (in), 10 VCC (power), 11 VOH (oe), 12 VOL (oc), 13 GND (power), 14 VEE (power), 15 VEEA (power), 16 CLAMP (oc)

## NCV8402xST
designator *  value NCV8402xST
ki_keywords: MOSFET ESD Overcurrent; ki_description: Self-Protected Low Side Driver with Temperature and Current Limit, SOT−223; ki_fp_filters: SOT?223*; Footprint: Package_TO_SOT_SMD:SOT-223; Supplier: https://www.onsemi.com/pub/Collateral/NCV8402-D.PDF
footprint SOT-223
pins: 1 G (in), 2 D hidden, 3 S, 4 D
text: Temp & Current; Limit

## PE29101
designator *  value PE29101
ki_keywords: GaN Gate Driver; ki_description: UltraCMOS High-Speed FET Driver, 40 MHz, Output Current 2.0A/4.0A, 80V, Half Bridge, Low Side Output, CSP-16; ki_fp_filters: pSemi*CSP*1.64x2.04mm*P0.4mm*; Footprint: Package_CSP:pSemi_CSP-16_1.64x2.04mm_P0.4mm; Supplier: http://www.psemi.com/pdf/datasheets/pe29101ds.pdf
footprint pSemi_CSP-16_1.64x2.04mm_P0.4mm
pins: 1 HSGpd (out), 2 HSS, 3 HSB (in), 4 VDDSYNC, 5 RDLH, 6 HSGpu (out), 7 ~{{EN}} (in), 8 IN (in), 9 LSGpu (out), 10 LSO (out), 11 GND (power), 12 LSGpd (out), 13 LSS, 14 LSB (in), 15 VDD (power), 16 RDHL

## PE29102
designator *  value PE29102
ki_keywords: GaN Gate Driver; ki_description: UltraCMOS High-Speed FET Driver, 40 MHz, Output Current 2.0A/4.0A, 80V, Half Bridge, Phase Control, CSP-16; ki_fp_filters: pSemi*CSP*1.64x2.04mm*P0.4mm*; Footprint: Package_CSP:pSemi_CSP-16_1.64x2.04mm_P0.4mm; Supplier: http://www.psemi.com/pdf/datasheets/pe29102ds.pdf
footprint pSemi_CSP-16_1.64x2.04mm_P0.4mm
pins: 1 HSGpd (out), 2 HSS, 3 HSB (in), 4 NC (in) hidden, 5 RDLH, 6 HSGpu (out), 7 ~{{EN}} (in), 8 IN (in), 9 LSGpu (out), 10 PHCTL (in), 11 GND (power), 12 LSGpd (out), 13 LSS, 14 LSB (in), 15 VDD (power), 16 RDHL

## PM8834
designator *  value PM8834
ki_keywords: mosfet driver; ki_description: 4A dual low-side MOSFET driver, SOIC-8; ki_fp_filters: SOIC*3.9x4.9mm*P1.27mm*; Footprint: Package_SO:SOIC-8_3.9x4.9mm_P1.27mm; Supplier: http://www.st.com/resource/en/datasheet/pm8834.pdf
footprint SOIC-8_3.9x4.9mm_P1.27mm
pins: 1 EN1 (in), 2 PWM1 (in), 3 GND (power), 4 PWM2 (in), 5 OUT2 (out), 6 VCC (power), 7 OUT1 (out), 8 EN2 (in)

## PM8834M
designator *  value PM8834M
ki_keywords: mosfet driver; ki_description: 4A dual low-side MOSFET driver, MSOP-8; ki_fp_filters: MSOP*1EP*3x3mm*P0.65mm*; Footprint: Package_SO:MSOP-8-1EP_3x3mm_P0.65mm_EP1.95x2.15mm; Supplier: http://www.st.com/resource/en/datasheet/pm8834.pdf
footprint MSOP-8-1EP_3x3mm_P0.65mm_EP1.95x2.15mm
pins: 1 EN1 (in), 2 PWM1 (in), 3 GND (power), 4 PWM2 (in), 5 OUT2 (out), 6 VCC (power), 7 OUT1 (out), 8 EN2 (in), 9 GND (power)

## SM72295MA
designator *  value SM72295MA
ki_keywords: Full Bridge Gate Driver; ki_description: Full Bridge Gate Driver with integrated Current Sense Amplifier, 3A, 115V, SOIC-28; ki_fp_filters: SOIC*7.5x17.9mm*P1.27mm*; Footprint: Package_SO:SOIC-28W_7.5x17.9mm_P1.27mm; Supplier: http://www.ti.com/lit/gpn/sm72295
footprint SOIC-28W_7.5x17.9mm_P1.27mm
pins: 1 SIA (in), 2 SOA (in), 3 IIN, 4 BIN (out), 5 AGND (power), 6 LIA (in), 7 HIA (in), 8 HIB (in), 9 LIB (in), 10 PGOOD (oc), 11 BOUT (out), 12 IOUT, 13 SOB (in), 14 SIB (in), 15 OVP (oc), 16 OVS (in), 17 VDD (power), 18 HSA, 19 HOA (out), 20 HBA, 21 VCCA (power), 22 LOA (out), 23 PGND (power), 24 LOB (out), 25 VCCB (power), 26 HBB, 27 HOB (out), 28 HSB

## STGAP1AS
designator *  value STGAP1AS
ki_keywords: isolated fet driver; ki_description: Galvanically isolated 5 A advanced single gate driver, Dual Output, Miller Clamp, Sense, Desaturation, UVLO, OVLO, SPI, AEC-Q100, SOIC-24; ki_fp_filters: SOIC*7.5x15.4mm*P1.27mm*; Footprint: Package_SO:SOIC-24W_7.5x15.4mm_P1.27mm; Supplier: https://www.st.com/resource/en/datasheet/stgap1as.pdf
footprint SOIC-24W_7.5x15.4mm_P1.27mm
pins: 1 GND (power), 2 SDO (out), 3 SDI (in), 4 ~{{CS}} (in), 5 CK (in), 6 VREG (power), 7 VDD (power), 8 IN-/DIAG2 (io), 9 IN+ (in), 10 DIAG1 (oc), 11 ~{{SD}} (in), 12 GND hidden, 13 GNDISO (power), 14 VL (power), 15 VREGISO (power), 16 SENSE (in), 17 VH (power), 18 DESAT, 19 VCECLAMP (in), 20 GON (out), 21 GOFF (out), 22 CLAMP (out), 23 VL hidden, 24 ASC (in)

## STGAP2SCM
designator *  value STGAP2SCM
ki_keywords: isolated fet driver; ki_description: Galvanically isolated 4 A single gate driver, Single Output, Miller Clamp, SOIC-8; ki_fp_filters: SOIC*3.9x4.9mm*P1.27mm*; Footprint: Package_SO:SOIC-8_3.9x4.9mm_P1.27mm; Supplier: https://www.st.com/resource/en/datasheet/stgap2s.pdf
footprint SOIC-8_3.9x4.9mm_P1.27mm
pins: 1 VDD (power), 2 IN+ (in), 3 IN- (in), 4 GND (power), 5 VH (power), 6 GOUT (out), 7 CLAMP (out), 8 GNDISO (power)

## STGAP2SM
designator *  value STGAP2SM
ki_keywords: isolated fet driver; ki_description: Galvanically isolated 4 A single gate driver, Dual Output, SOIC-8; ki_fp_filters: SOIC*3.9x4.9mm*P1.27mm*; Footprint: Package_SO:SOIC-8_3.9x4.9mm_P1.27mm; Supplier: https://www.st.com/resource/en/datasheet/stgap2s.pdf
footprint SOIC-8_3.9x4.9mm_P1.27mm
pins: 1 VDD (power), 2 IN+ (in), 3 IN- (in), 4 GND (power), 5 VH (power), 6 GON (out), 7 GOFF (out), 8 GNDISO (power)

## TC4421
designator *  value TC4421
ki_keywords: MOSFET IGBT driver; ki_description: 9A High-Speed inverting MOSFET Driver; ki_fp_filters: DIP*W7.62mm*; Footprint: Package_DIP:DIP-8-N6_W7.62mm; Supplier: http://ww1.microchip.com/downloads/en/DeviceDoc/20001420F.pdf
footprint DIP-8-N6_W7.62mm
pins: 1 VDD (power), 2 INPUT (in), 3 NC (in) hidden, 4 GND (power), 5 GND hidden, 6 ~{{OUTPUT}} (out), 7 ~{{OUTPUT}} hidden, 8 VDD hidden

## TC4422
designator *  value TC4422
ki_keywords: MOSFET IGBT driver; ki_description: 9A High-Speed non-inverting MOSFET Driver; ki_fp_filters: DIP*W7.62mm*; Footprint: Package_DIP:DIP-8-N6_W7.62mm; Supplier: http://ww1.microchip.com/downloads/en/DeviceDoc/20001420F.pdf
footprint DIP-8-N6_W7.62mm
pins: 1 VDD (power), 2 INPUT (in), 3 NC (in) hidden, 4 GND (power), 5 GND hidden, 6 OUTPUT (out), 7 OUTPUT hidden, 8 VDD hidden

## TLP250
designator *  value TLP250
ki_keywords: MOSFET Driver IGBT Driver Optocoupler; ki_description: Gate Drive Optocoupler, Output Current 1.5/1.5A, DIP-8; ki_fp_filters: DIP*W7.62mm*; Footprint: Package_DIP:DIP-8_W7.62mm; Supplier: http://toshiba.semicon-storage.com/info/docget.jsp?did=16821&prodName=TLP250
footprint DIP-8_W7.62mm
pins: 1 NC (in) hidden, 2 A, 3 C, 4 NC (in) hidden, 5 VEE (power), 6 VO (out), 7 VO (out), 8 VCC (power)

## UCC21520ADW
designator *  value UCC21520ADW
ki_keywords: Dual Isolated Gate Driver; ki_description: Isolated Dual-Channel Gate Driver, Output Current 4.0/6.0A, 5.7kV Isolation, 5V UVLO, SOIC-16W; ki_fp_filters: SOIC*7.5x10.3mm*P1.27mm*; Footprint: Package_SO:SOIC-16W_7.5x10.3mm_P1.27mm; Supplier: http://www.ti.com/lit/ds/symlink/ucc21520.pdf
footprint SOIC-16W_7.5x10.3mm_P1.27mm
pins: 1 INA (in), 2 INB (in), 3 VCCI (power), 4 GND (power), 5 DIS (in), 6 DT, 7 NC (in) hidden, 8 VCCI hidden, 9 VSSB (power), 10 OUTB (out), 11 VDDB (power), 12 NC (in) hidden, 13 NC (in) hidden, 14 VSSA (power), 15 OUTA (out), 16 VDDA (power)
text: Logic Input

## UCC21520DW
designator *  value UCC21520DW
ki_keywords: Dual Isolated Gate Driver; ki_description: Isolated Dual-Channel Gate Driver, Output Current 4.0/6.0A, 5.7kV Isolation, 8V UVLO, SOIC-16W; ki_fp_filters: SOIC*7.5x10.3mm*P1.27mm*; Footprint: Package_SO:SOIC-16W_7.5x10.3mm_P1.27mm; Supplier: http://www.ti.com/lit/ds/symlink/ucc21520.pdf
footprint SOIC-16W_7.5x10.3mm_P1.27mm
pins: 1 INA (in), 2 INB (in), 3 VCCI (power), 4 GND (power), 5 DIS (in), 6 DT, 7 NC (in) hidden, 8 VCCI hidden, 9 VSSB (power), 10 OUTB (out), 11 VDDB (power), 12 NC (in) hidden, 13 NC (in) hidden, 14 VSSA (power), 15 OUTA (out), 16 VDDA (power)
text: Logic Input

## UCC27714D
designator *  value UCC27714D
ki_keywords: gate driver bootstrap; ki_description: High-Speed, 600-V High-Side Low-Side Gate Driver, SOIC-14; ki_fp_filters: SOIC*3.9x8.7mm*P1.27mm*; Footprint: Package_SO:SOIC-14_3.9x8.7mm_P1.27mm; Supplier: http://www.ti.com/lit/ds/symlink/ucc27714.pdf
footprint SOIC-14_3.9x8.7mm_P1.27mm
pins: 1 HI (in), 2 LI (in), 3 VSS (power), 4 EN/NC (in), 5 COM, 6 LO (out), 7 VDD (power), 8 NC (in) hidden, 9 NC (in) hidden, 10 NC (in) hidden, 11 HS, 12 HO (out), 13 HB (in), 14 NC (in) hidden

## ZXGD3001E6
designator *  value ZXGD3001E6
ki_keywords: gate driver; ki_description: 9A (peak) Gate driver, 12V, 3ns delay, SOT-23-6; ki_fp_filters: SOT?23*; Footprint: Package_TO_SOT_SMD:SOT-23-6; Supplier: http://www.diodes.com/_files/datasheets/ZXGD3001E6.pdf
footprint SOT-23-6
pins: 1 VCC (power), 2 IN1 (in), 3 GND (power), 4 SINK (oc), 5 IN2 (in), 6 SOURCE (oe)

## ZXGD3002E6
designator *  value ZXGD3002E6
ki_keywords: gate driver; ki_description: 9A (peak) Gate driver, 20V, 2ns delay, SOT-23-6; ki_fp_filters: SOT?23*; Footprint: Package_TO_SOT_SMD:SOT-23-6; Supplier: http://www.diodes.com/_files/datasheets/ZXGD3002E6.pdf
footprint SOT-23-6
pins: 1 VCC (power), 2 IN1 (in), 3 GND (power), 4 SINK (oc), 5 IN2 (in), 6 SOURCE (oe)

## ZXGD3003E6
designator *  value ZXGD3003E6
ki_keywords: gate driver; ki_description: 5A (peak) Gate driver, 40V, 2ns delay, SOT-23-6; ki_fp_filters: SOT?23*; Footprint: Package_TO_SOT_SMD:SOT-23-6; Supplier: http://www.diodes.com/_files/datasheets/ZXGD3003E6.pdf
footprint SOT-23-6
pins: 1 VCC (power), 2 IN1 (in), 3 GND (power), 4 SINK (oc), 5 IN2 (in), 6 SOURCE (oe)

## ZXGD3004E6
designator *  value ZXGD3004E6
ki_keywords: gate driver; ki_description: 8A (peak) Gate driver, 40V, 1ns delay, SOT-23-6; ki_fp_filters: SOT?23*; Footprint: Package_TO_SOT_SMD:SOT-23-6; Supplier: http://www.diodes.com/_files/datasheets/ZXGD3004E6.pdf
footprint SOT-23-6
pins: 1 VCC (power), 2 IN1 (in), 3 GND (power), 4 SINK (oc), 5 IN2 (in), 6 SOURCE (oe)

## ZXGD3006E6
designator *  value ZXGD3006E6
ki_keywords: mosfet igbt driver buffer; ki_description: 40V 10A gate driver, SOT-23-6; ki_fp_filters: SOT?23*; Footprint: Package_TO_SOT_SMD:SOT-23-6; Supplier: https://www.diodes.com/assets/Datasheets/ZXGD3006E6.pdf
footprint SOT-23-6
pins: 1 VCC (power), 2 IN (in), 3 VEE (power), 4 SINK (oc), 5 NC (in) hidden, 6 SRC (oe)

## ZXGD3009E6
designator *  value ZXGD3009E6
ki_keywords: gate driver; ki_description: 2A (peak) Gate driver, 40V, SOT-23-6; ki_fp_filters: SOT?23*; Footprint: Package_TO_SOT_SMD:SOT-23-6; Supplier: https://www.diodes.com/assets/Datasheets/ZXGD3009E6.pdf
footprint SOT-23-6
pins: 1 VCC (power), 2 IN (in), 3 VEE (power), 4 SINK (oc), 5 NC (in) hidden, 6 SOURCE (oe)